# Altium integrated library MagI3C-VDRM Variable Step Down Regulator Module.IntLib: 6 symbols
Pins are listed as number, name and electrical type; pins without a type are passive.

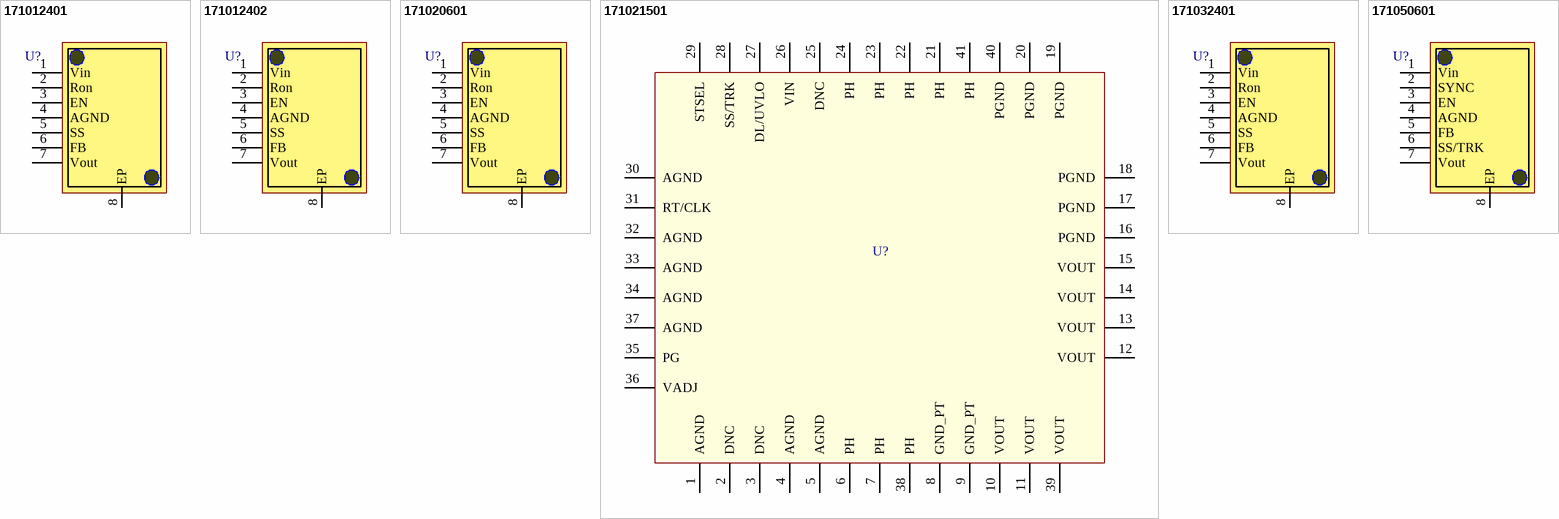
[diagram p0: symbols 171012401 to 171050601]

## 171012401
designator U?
MagI³C-VDRM Variable Step Down Regulator Module WE-VDRM , Ui=6-42V; PartNumber: 171012401; Ui: 6-42 V; PackageReference: 7 PIN PFM; ComponentLink1Description: Manufacturer URL; ComponentLink1URL: http://www.we-online.com; ComponentLink2Description: Datasheet; ComponentLink2URL: http://katalog-live.we-online.de/pm/datasheet/171012402.pdf
footprint 7 PIN PFM (SMD, 7-Leads, Body 10.4x10.1mm (max), Pitch 1.27mm, IPC Medium Density)
pins: 1 Vin, 2 Ron, 3 EN, 4 AGND, 5 SS, 6 FB, 7 Vout, 8 EP

## 171012402
designator U?
MagI³C-VDRM Variable Step Down Regulator Module WE-VDRM , Ui=6-42V; PartNumber: 171012402; Ui: 6-42 V; PackageReference: 7 PIN PFM; ComponentLink1Description: Manufacturer URL; ComponentLink1URL: http://www.we-online.com; ComponentLink2Description: Datasheet; ComponentLink2URL: http://katalog-live.we-online.de/pm/datasheet/171012402.pdf
footprint 7 PIN PFM (SMD, 7-Leads, Body 10.4x10.1mm (max), Pitch 1.27mm, IPC Medium Density)
pins: 1 Vin, 2 Ron, 3 EN, 4 AGND, 5 SS, 6 FB, 7 Vout, 8 EP

## 171020601
designator U?
MagI³C-VDRM Variable Step Down Regulator Module WE-VDRM , Ui=6-42V; PartNumber: 171020601; Ui: 6-42 V; PackageReference: 7 PIN PFM; ComponentLink1Description: Manufacturer URL; ComponentLink1URL: http://www.we-online.com; ComponentLink2Description: Datasheet; ComponentLink2URL: http://katalog-live.we-online.de/pm/datasheet/171020601.pdf
footprint 7 PIN PFM (SMD, 7-Leads, Body 10.4x10.1mm (max), Pitch 1.27mm, IPC Medium Density)
pins: 1 Vin, 2 Ron, 3 EN, 4 AGND, 5 SS, 6 FB, 7 Vout, 8 EP

## 171021501
designator U?
MagI³C-VDRM Variable Step Down Regulator Module WE-VDRM , Ui=6-36V; PartNumber: 171021501; Ui: 7-50 V; PackageReference: BQFN-41; ComponentLink1Description: Manufacturer URL; ComponentLink1URL: http://www.we-online.com; ComponentLink2Description: Datasheet; ComponentLink2URL: http://katalog-live.we-online.de/pm/datasheet/171021501.pdf
footprint BQFN-41 (11x9x2.8mm Pins : 41)
pins: 1 AGND, 2 DNC, 3 DNC, 4 AGND, 5 AGND, 6 PH, 7 PH, 8 GND_PT, 9 GND_PT, 10 VOUT, 11 VOUT, 12 VOUT, 13 VOUT, 14 VOUT, 15 VOUT, 16 PGND, 17 PGND, 18 PGND, 19 PGND, 20 PGND, 21 PH, 22 PH, 23 PH, 24 PH, 25 DNC, 26 VIN, 27 DL/UVLO, 28 SS/TRK, 29 STSEL, 30 AGND, 31 RT/CLK, 32 AGND, 33 AGND, 34 AGND, 35 PG, 36 VADJ, 37 AGND, 38 PH, 39 VOUT, 40 PGND, 41 PH

## 171032401
designator U?
MagI³C-VDRM Variable Step Down Regulator Module WE-VDRM , Ui=6-42V; PartNumber: 171032401; Ui: 6-42 V; PackageReference: 7 PIN PFM; ComponentLink1Description: Manufacturer URL; ComponentLink1URL: http://www.we-online.com; ComponentLink2Description: Datasheet; ComponentLink2URL: http://katalog-live.we-online.de/pm/datasheet/171032401.pdf
footprint 7 PIN PFM (SMD, 7-Leads, Body 10.4x10.1mm (max), Pitch 1.27mm, IPC Medium Density)
pins: 1 Vin, 2 Ron, 3 EN, 4 AGND, 5 SS, 6 FB, 7 Vout, 8 EP

## 171050601
designator U?
MagI³C-VDRM Variable Step Down Regulator Module WE-VDRM , Ui=6-36V; PartNumber: 171050601; Ui: 6-36 V; PackageReference: 7 PIN PFM; ComponentLink1Description: Manufacturer URL; ComponentLink1URL: http://www.we-online.com; ComponentLink2Description: Datasheet; ComponentLink2URL: http://katalog-live.we-online.de/pm/datasheet/171050601.pdf
footprint 7 PIN PFM (SMD, 7-Leads, Body 10.4x10.1mm (max), Pitch 1.27mm, IPC Medium Density)
pins: 1 Vin, 2 SYNC, 3 EN, 4 AGND, 5 FB, 6 SS/TRK, 7 Vout, 8 EP